# EAGLE library part AT90USB128 (library ic)
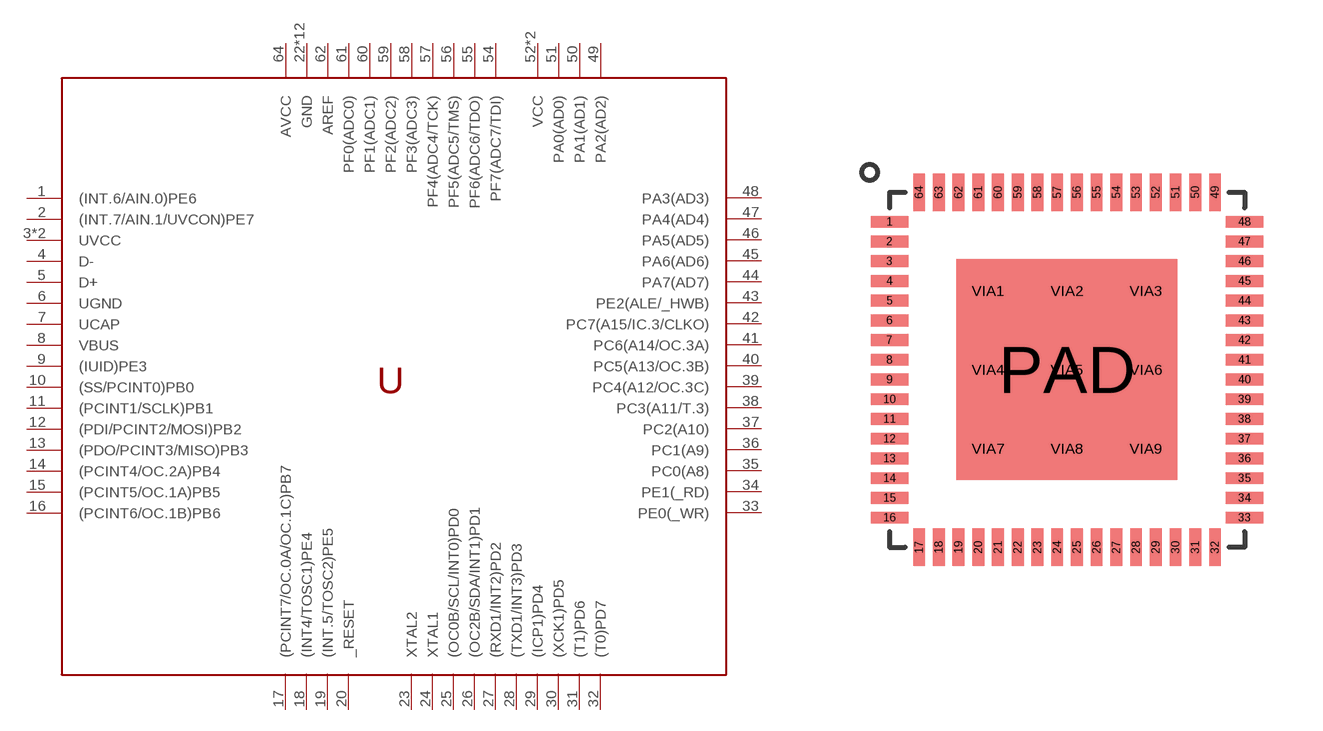
[diagram p10: symbol with the pads of QFN64; footprint QFN64]

Designator prefix U

## AT90USB128  [QFN64]
1  (INT.6/AIN.0)PE6
2  (INT.7/AIN.1/UVCON)PE7
3  UVCC
4  D-
5  D+
6  UGND
7  UCAP
8  VBUS
9  (IUID)PE3
10  (SS/PCINT0)PB0
11  (PCINT1/SCLK)PB1
12  (PDI/PCINT2/MOSI)PB2
13  (PDO/PCINT3/MISO)PB3
14  (PCINT4/OC.2A)PB4
15  (PCINT5/OC.1A)PB5
16  (PCINT6/OC.1B)PB6
17  (PCINT7/OC.0A/OC.1C)PB7
18  (INT4/TOSC1)PE4
19  (INT.5/TOSC2)PE5
20  _RESET
21  UVCC
22  GND
23  XTAL2
24  XTAL1
25  (OC0B/SCL/INT0)PD0
26  (OC2B/SDA/INT1)PD1
27  (RXD1/INT2)PD2
28  (TXD1/INT3)PD3
29  (ICP1)PD4
30  (XCK1)PD5
31  (T1)PD6
32  (T0)PD7
33  PE0(_WR)
34  PE1(_RD)
35  PC0(A8)
36  PC1(A9)
37  PC2(A10)
38  PC3(A11/T.3)
39  PC4(A12/OC.3C)
40  PC5(A13/OC.3B)
41  PC6(A14/OC.3A)
42  PC7(A15/IC.3/CLKO)
43  PE2(ALE/_HWB)
44  PA7(AD7)
45  PA6(AD6)
46  PA5(AD5)
47  PA4(AD4)
48  PA3(AD3)
49  PA2(AD2)
50  PA1(AD1)
51  PA0(AD0)
52  VCC
53  VCC
54  PF7(ADC7/TDI)
55  PF6(ADC6/TDO)
56  PF5(ADC5/TMS)
57  PF4(ADC4/TCK)
58  PF3(ADC3)
59  PF2(ADC2)
60  PF1(ADC1)
61  PF0(ADC0)
62  AREF
63  GND
64  AVCC
PAD  GND
VIA1  GND
VIA2  GND
VIA3  GND
VIA4  GND
VIA5  GND
VIA6  GND
VIA7  GND
VIA8  GND
VIA9  GND

## Footprint QFN64 (pad centres in mm)
smd 0.95 x 0.3: 1 -4.5,3.75; 2 -4.5,3.25; 3 -4.5,2.75; 4 -4.5,2.25; 5 -4.5,1.75; 6 -4.5,1.25; 7 -4.5,0.75; 8 -4.5,0.25; 9 -4.5,-0.25; 10 -4.5,-0.75; 11 -4.5,-1.25; 12 -4.5,-1.75; 13 -4.5,-2.25; 14 -4.5,-2.75; 15 -4.5,-3.25; 16 -4.5,-3.75; 33 4.5,-3.75; 34 4.5,-3.25; 35 4.5,-2.75; 36 4.5,-2.25; 37 4.5,-1.75; 38 4.5,-1.25; 39 4.5,-0.75; 40 4.5,-0.25; 41 4.5,0.25; 42 4.5,0.75; 43 4.5,1.25; 44 4.5,1.75; 45 4.5,2.25; 46 4.5,2.75; 47 4.5,3.25; 48 4.5,3.75
smd 0.3 x 0.95: 17 -3.75,-4.5; 18 -3.25,-4.5; 19 -2.75,-4.5; 20 -2.25,-4.5; 21 -1.75,-4.5; 22 -1.25,-4.5; 23 -0.75,-4.5; 24 -0.25,-4.5; 25 0.25,-4.5; 26 0.75,-4.5; 27 1.25,-4.5; 28 1.75,-4.5; 29 2.25,-4.5; 30 2.75,-4.5; 31 3.25,-4.5; 32 3.75,-4.5; 49 3.75,4.5; 50 3.25,4.5; 51 2.75,4.5; 52 2.25,4.5; 53 1.75,4.5; 54 1.25,4.5; 55 0.75,4.5; 56 0.25,4.5; 57 -0.25,4.5; 58 -0.75,4.5; 59 -1.25,4.5; 60 -1.75,4.5; 61 -2.25,4.5; 62 -2.75,4.5; 63 -3.25,4.5; 64 -3.75,4.5
smd 5.6 x 5.6: PAD 0,0
drill 0.3: VIA1 -2,2; VIA2 0,2; VIA3 2,2; VIA4 -2,0; VIA5 0,0; VIA6 2,0; VIA7 -2,-2; VIA8 0,-2; VIA9 2,-2